# EAGLE library part BMP180 (library bosch_sensors)
BMP 180 Digital Pressure Sensor with I2C Interface
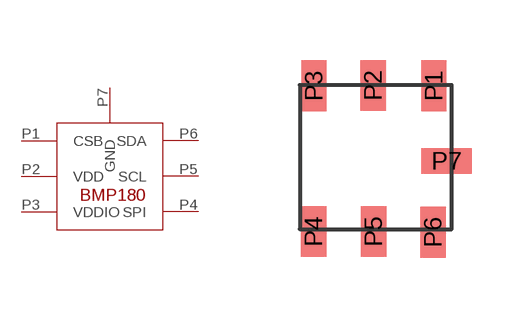
[diagram p0: symbol with the pads of BMP180_LGA7; footprint BMP180_LGA7]

Designator prefix -

## BMP180  [BMP180_LGA7]
P1  CSB
P2  VDD
P3  VDDIO
P4  SPI
P5  SCL
P6  SDA
P7  GND

## Footprint BMP180_LGA7 (pad centres in mm)
BMP180 LGA7 3.60mm x 3.80mm x 0.93mm
smd 0.635 x 1.27: P1 1.455,1.685; P2 -0.065,1.695; P3 -1.545,1.685; P4 -1.555,-1.955; P5 -0.055,-1.955; P6 1.435,-1.975
smd 1.27 x 0.635: P7 1.775,-0.195